# EAGLE library part 1X6 (library con-amp-micro-mate-n-lock)
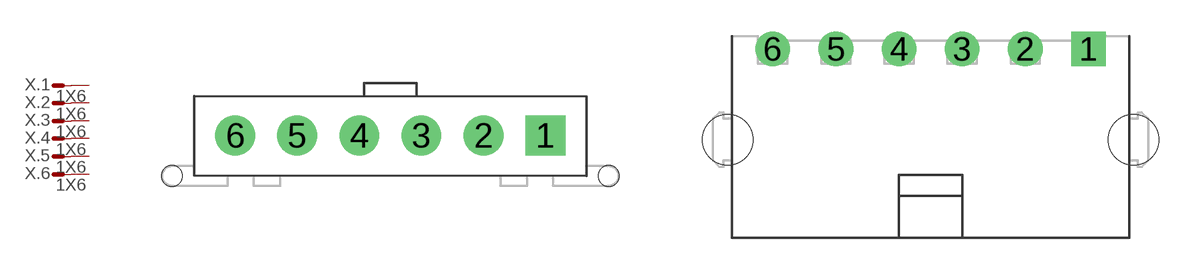
[diagram p0: symbol with the pads of 2-1445050-6; footprints 2-1445050-6, 2-1445054-6]

Designator prefix X; gates .1=M .2=M .3=M .4=M .5=M .6=M

## 1X6-A  [2-1445050-6]
1  .1:S  pas
2  .2:S  pas
3  .3:S  pas
4  .4:S  pas
5  .5:S  pas
6  .6:S  pas

## 1X6-B  [2-1445054-6]
Pads as for 2-1445050-6

## 1X6-C  [2-1445055-6]
Pads as for 2-1445050-6

## Footprint 2-1445050-6 (pad centres in mm)
drill 1.1 pad 1.93 square: 1 0,0
drill 1.1 pad 1.93 round: 2 -3,0; 3 -6,0; 4 -9,0; 5 -12,0; 6 -15,0
hole 1 at -18.07,-1.96
hole 1 at 3.07,-1.96

## Footprint 2-1445054-6 (pad centres in mm)
drill 1.1 square: 1 0,0
drill 1.1 round: 2 -3,0; 3 -6,0; 4 -9,0; 5 -12,0; 6 -15,0
hole 2.4 at 2.15,-4.32
hole 2.4 at -17.15,-4.32

## Footprint 2-1445055-6 (pad centres in mm)
drill 1.1 pad 1.93 square: 1 0,0
drill 1.1 pad 1.93 round: 2 -3,0; 3 -6,0; 4 -9,0; 5 -12,0; 6 -15,0
hole 3 at -2.15,-4.32
hole 3 at -12.85,-4.32